# Altium integrated library NXP Semiconductors Automotive MOSFETs.IntLib: 540 symbols (part 1 of 16)
Pins are listed as number, name and electrical type; pins without a type are passive.

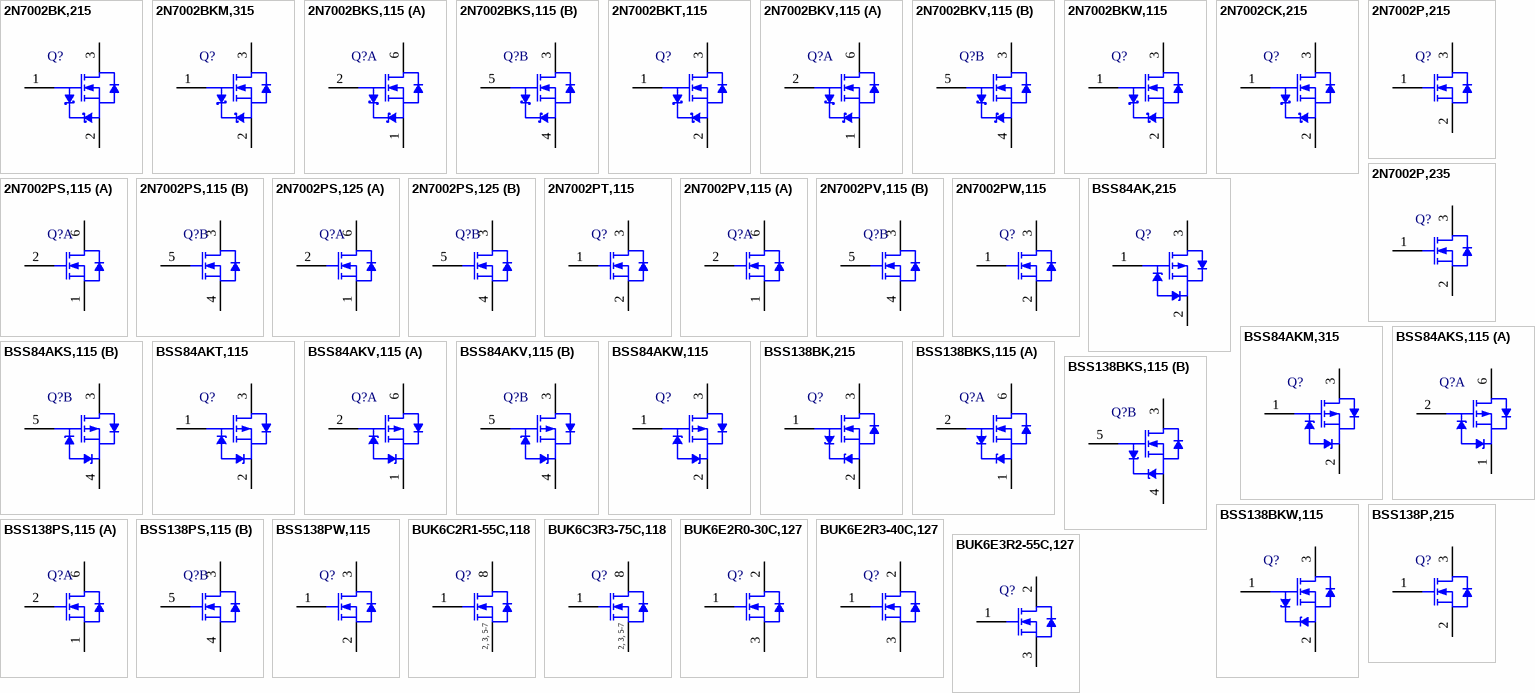
[diagram p0: symbols 2N7002BK,215 to BUK6E3R2-55C,127]

## 2N7002BK,215
designator Q?
N-Channel Trench MOSFET, 60 V, 0.35 A, -55 to 150 degC, 3-Pin SOT23, Tape and Reel; Manufacturer: NXP Semiconductors; PartNumber: 2N7002BK,215; Automotive Qualified: Y; Channel Type: N; ID [max] (A): 0.35; IDM [max] (A): 1.2; Packing: Tape & Reel; VDS [max] (V): 60; VGSth [typ] (V): 1.6; DatasheetVersion: Rev. 1; PackageVersion: 06-03-16, 03/2006; PackageReference: SOT23; PackageDescription: 3-Pin Small Outline Transistor Package, Body 2.9 x 1.3 mm, Pitch 0.95 mm; Supplier 1: Digi-Key; Supplier Part Number 1: 568-5981-2-ND; Supplier 2: Digi-Key; Supplier Part Number 2: 568-5981-1-ND; Supplier 3: Digi-Key; Supplier Part Number 3: 568-5981-6-ND; Supplier 4: Newark; Supplier Part Number 4: 81R3562; Supplier 5: Mouser; Supplier Part Number 5: 771-2N7002BK215; Mounting Technology: Surface Mount; Code_JEDEC: TO-236AB; ComponentLink1Description: Manufacturer URL; ComponentLink1URL: http://www.nxp.com/; ComponentLink2Description: Datasheet; ComponentLink2URL: http://www.nxp.com/documents/data_sheet/2N7002BK.pdf; ComponentLink3Description: Package Specification; ComponentLink3URL: http://www.nxp.com/documents/outline_drawing/sot023_po.pdf
footprint NXP-SOT23_N (SOT23, 3-Leads, Body 3x1.4mm, Pitch 0.95mm, IPC Medium Density)
footprint NXP-SOT23_L (SOT23, 3-Leads, Body 3x1.4mm, Pitch 0.95mm, IPC High Density)
footprint NXP-SOT23_M (SOT23, 3-Leads, Body 3x1.4mm, Pitch 0.95mm, IPC Low Density)
pins: 1 G "gate", 2 S "source", 3 D "drain"

## 2N7002BKM,315
designator Q?
N-Channel Trench MOSFET, 60 V, 0.45 A, -55 to 150 degC, 3-Pin SOT883, Tape and Reel; Manufacturer: NXP Semiconductors; PartNumber: 2N7002BKM,315; Automotive Qualified: Y; Channel Type: N; ID [max] (A): 0.45; IDM [max] (A): 1.2; Packing: Tape & Reel; VDS [max] (V): 60; VGSth [typ] (V): 1.6; DatasheetVersion: Rev. 1; PackageVersion: 03-04-03, 04/2003; PackageReference: SOT883; PackageDescription: 3-Pin Small Outline No-Lead, Body 0.585 x 0.985 mm, Pitch 0.35 mm; Supplier 1: Digi-Key; Supplier Part Number 1: 568-5976-2-ND; Supplier 2: Digi-Key; Supplier Part Number 2: 568-5976-1-ND; Supplier 3: Digi-Key; Supplier Part Number 3: 568-5976-6-ND; Supplier 4: Newark; Supplier Part Number 4: 81R3563; Supplier 5: Mouser; Supplier Part Number 5: 771-2N7002BKM315; Mounting Technology: Surface Mount; Code_JEITA: SC-101; ComponentLink1Description: Manufacturer URL; ComponentLink1URL: http://www.nxp.com/; ComponentLink2Description: Datasheet; ComponentLink2URL: http://www.nxp.com/documents/data_sheet/2N7002BKM.pdf; ComponentLink3Description: Package Specification; ComponentLink3URL: http://www.nxp.com/documents/outline_drawing/sot883_po.pdf
footprint NXP-SOT883_N (SON, 3-Leads, Body 1.02x0.62mm, Pitch 0.35mm, IPC Medium Density)
footprint NXP-SOT883_L (SON, 3-Leads, Body 1.02x0.62mm, Pitch 0.35mm, IPC High Density)
footprint NXP-SOT883_M (SON, 3-Leads, Body 1.02x0.62mm, Pitch 0.35mm, IPC Low Density)
pins: 1 G "gate", 2 S "source", 3 D "drain"

## 2N7002BKS,115
designator Q?
Dual N-Channel Trench MOSFET, 60 V, 0.3 A, -55 to 150 degC, 6-Pin SOT363, Tape and Reel; Manufacturer: NXP Semiconductors; PartNumber: 2N7002BKS,115; Automotive Qualified: Y; Channel Type: N; ID [max] (A): 0.3; IDM [max] (A): 1.2; Packing: Tape & Reel; VDS [max] (V): 60; VGSth [typ] (V): 1.6; DatasheetVersion: Rev. 2; PackageVersion: 06-03-16, 03/2006; PackageReference: SOT363; PackageDescription: 6-Pin Small Outline Transistor Package, Body 2 x 1.25 mm, Pitch 0.65 mm; Supplier 1: Digi-Key; Supplier Part Number 1: 568-5977-2-ND; Supplier 2: Digi-Key; Supplier Part Number 2: 568-5977-1-ND; Supplier 3: Digi-Key; Supplier Part Number 3: 568-5977-6-ND; Supplier 4: Newark; Supplier Part Number 4: 81R3564; Supplier 5: Mouser; Supplier Part Number 5: 771-2N7002BKS115; Mounting Technology: Surface Mount; Code_JEITA: SC-88; ComponentLink1Description: Manufacturer URL; ComponentLink1URL: http://www.nxp.com/; ComponentLink2Description: Datasheet; ComponentLink2URL: http://www.nxp.com/documents/data_sheet/2N7002BKS.pdf; ComponentLink3Description: Package Specification; ComponentLink3URL: http://www.nxp.com/documents/outline_drawing/sot363_po.pdf
footprint NXP-SOT363_N (SOT23, 6-Leads, Body 2.2x1.35mm, Pitch 0.65mm, IPC Medium Density)
footprint NXP-SOT363_L (SOT23, 6-Leads, Body 2.2x1.35mm, Pitch 0.65mm, IPC High Density)
footprint NXP-SOT363_M (SOT23, 6-Leads, Body 2.2x1.35mm, Pitch 0.65mm, IPC Low Density)
part A pins: 1 S1 "source 1", 2 G1 "gate 1", 6 D1 "drain 1"
part B pins: 3 D2 "drain 2", 4 S2 "source 2", 5 G2 "gate 2"

## 2N7002BKT,115
designator Q?
N-Channel Trench MOSFET, 60 V, 0.29 A, -55 to 150 degC, 3-Pin SOT416, Tape and Reel; Manufacturer: NXP Semiconductors; PartNumber: 2N7002BKT,115; Automotive Qualified: Y; Channel Type: N; ID [max] (A): 0.29; IDM [max] (A): 1.2; Packing: Tape & Reel; VDS [max] (V): 60; VGSth [typ] (V): 1.6; DatasheetVersion: Rev. 1; PackageVersion: 06-03-16, 03/2006; PackageReference: SOT416_B; PackageDescription: 3-Pin Small Outline Transistor Package, Body 1.6 x 0.8 mm, Pitch 0.5 mm; Supplier 1: Digi-Key; Supplier Part Number 1: 568-5978-2-ND; Supplier 2: Digi-Key; Supplier Part Number 2: 568-5978-1-ND; Supplier 3: Digi-Key; Supplier Part Number 3: 568-5978-6-ND; Supplier 4: Mouser; Supplier Part Number 4: 771-2N7002BKT115; Mounting Technology: Surface Mount; Code_JEITA: SC-75; ComponentLink1Description: Manufacturer URL; ComponentLink1URL: http://www.nxp.com/; ComponentLink2Description: Datasheet; ComponentLink2URL: http://www.nxp.com/documents/data_sheet/2N7002BKT.pdf; ComponentLink3Description: Package Specification; ComponentLink3URL: http://www.nxp.com/documents/data_sheet/2N7002PT.pdf
footprint NXP-SOT416_B_N (SOT23, 3-Leads, Body 1.6x0.8mm, Pitch 0.5mm, IPC Medium Density)
footprint NXP-SOT416_B_L (SOT23, 3-Leads, Body 1.6x0.8mm, Pitch 0.5mm, IPC High Density)
footprint NXP-SOT416_B_M (SOT23, 3-Leads, Body 1.6x0.8mm, Pitch 0.5mm, IPC Low Density)
pins: 1 G "gate", 2 S "source", 3 D "drain"

## 2N7002BKV,115
designator Q?
Dual N-Channel Trench MOSFET, 60 V, 0.34 A, -55 to 150 degC, 6-Pin SOT666, Tape and Reel; Manufacturer: NXP Semiconductors; PartNumber: 2N7002BKV,115; Automotive Qualified: Y; Channel Type: N; ID [max] (A): 0.34; IDM [max] (A): 1.2; Packing: Tape & Reel; VDS [max] (V): 60; VGSth [typ] (V): 1.6; DatasheetVersion: Rev. 2; PackageVersion: 06-03-16, 03/2006; PackageReference: SOT666; PackageDescription: 6-Pin Small Outline Transistor Package, Body 1.6 x 1.2 mm, Pitch 0.5 mm; Supplier 1: Digi-Key; Supplier Part Number 1: 568-5979-2-ND; Supplier 2: Digi-Key; Supplier Part Number 2: 568-5979-1-ND; Supplier 3: Digi-Key; Supplier Part Number 3: 568-5979-6-ND; Supplier 4: Mouser; Supplier Part Number 4: 771-2N7002BKV115; Mounting Technology: Surface Mount; ComponentLink1Description: Manufacturer URL; ComponentLink1URL: http://www.nxp.com/; ComponentLink2Description: Datasheet; ComponentLink2URL: http://www.nxp.com/documents/data_sheet/2N7002BKV.pdf; ComponentLink3Description: Package Specification; ComponentLink3URL: http://www.nxp.com/documents/outline_drawing/sot666_po.pdf
footprint NXP-SOT666_N (SOT23, 6-Leads, Body 1.7x1.3mm, Pitch 0.5mm, IPC Medium Density)
footprint NXP-SOT666_L (SOT23, 6-Leads, Body 1.7x1.3mm, Pitch 0.5mm, IPC High Density)
footprint NXP-SOT666_M (SOT23, 6-Leads, Body 1.7x1.3mm, Pitch 0.5mm, IPC Low Density)
part A pins: 1 S1 "source 1", 2 G1 "gate 1", 6 D1 "drain 1"
part B pins: 3 D2 "drain 2", 4 S2 "source 2", 5 G2 "gate 2"

## 2N7002BKW,115
designator Q?
N-Channel Trench MOSFET, 60 V, 0.31 A, -55 to 150 degC, 3-Pin SOT323, Tape and Reel; Manufacturer: NXP Semiconductors; PartNumber: 2N7002BKW,115; Automotive Qualified: Y; Channel Type: N; ID [max] (A): 0.31; IDM [max] (A): 1.2; Packing: Tape & Reel; VDS [max] (V): 60; VGSth [typ] (V): 1.6; DatasheetVersion: Rev. 1; PackageVersion: 06-03-16, 03/2006; PackageReference: SOT323; PackageDescription: 3-Pin Small Outline Transistor Package, Body 2 x 1.25 mm, Pitch 0.65 mm; Supplier 1: Digi-Key; Supplier Part Number 1: 568-5980-2-ND; Supplier 2: Digi-Key; Supplier Part Number 2: 568-5980-1-ND; Supplier 3: Digi-Key; Supplier Part Number 3: 568-5980-6-ND; Supplier 4: Newark; Supplier Part Number 4: 85W3341; Supplier 5: Newark; Supplier Part Number 5: 81R3567; Supplier 6: Mouser; Supplier Part Number 6: 771-2N7002BKW115; Mounting Technology: Surface Mount; Code_JEITA: SC-70; ComponentLink1Description: Manufacturer URL; ComponentLink1URL: http://www.nxp.com/; ComponentLink2Description: Datasheet; ComponentLink2URL: http://www.nxp.com/documents/data_sheet/2N7002BKW.pdf; ComponentLink3Description: Package Specification; ComponentLink3URL: http://www.nxp.com/documents/outline_drawing/sot323_po.pdf
footprint NXP-SOT323_N (SOT23, 3-Leads, Body 2.2x1.35mm, Pitch 0.65mm, IPC Medium Density)
footprint NXP-SOT323_L (SOT23, 3-Leads, Body 2.2x1.35mm, Pitch 0.65mm, IPC High Density)
footprint NXP-SOT323_M (SOT23, 3-Leads, Body 2.2x1.35mm, Pitch 0.65mm, IPC Low Density)
pins: 1 G "gate", 2 S "source", 3 D "drain"

## 2N7002CK,215
designator Q?
N-Channel Trench MOSFET, 60 V, 0.3 A, -55 to 150 degC, 3-Pin SOT23, Tape and Reel; Manufacturer: NXP Semiconductors; PartNumber: 2N7002CK,215; Automotive Qualified: Y; Channel Type: N; ID [max] (A): 0.3; IDM [max] (A): 1.2; Packing: Tape & Reel; VDS [max] (V): 60; VGSth [typ] (V): 1.75; DatasheetVersion: Rev. 01; PackageVersion: 06-03-16, 03/2006; PackageReference: SOT23; PackageDescription: 3-Pin Small Outline Transistor Package, Body 2.9 x 1.3 mm, Pitch 0.95 mm; Supplier 1: Digi-Key; Supplier Part Number 1: 568-5982-2-ND; Supplier 2: Digi-Key; Supplier Part Number 2: 568-5982-1-ND; Supplier 3: Digi-Key; Supplier Part Number 3: 568-5982-6-ND; Supplier 4: Newark; Supplier Part Number 4: 70R9743; Supplier 5: Newark; Supplier Part Number 5: 85W3342; Supplier 6: Mouser; Supplier Part Number 6: 771-2N7002CK215; Mounting Technology: Surface Mount; Code_JEDEC: TO-236AB; ComponentLink1Description: Manufacturer URL; ComponentLink1URL: http://www.nxp.com/; ComponentLink2Description: Datasheet; ComponentLink2URL: http://www.nxp.com/documents/data_sheet/2N7002CK.pdf; ComponentLink3Description: Package Specification; ComponentLink3URL: http://www.nxp.com/documents/outline_drawing/sot023_po.pdf
footprint NXP-SOT23_N (SOT23, 3-Leads, Body 3x1.4mm, Pitch 0.95mm, IPC Medium Density)
footprint NXP-SOT23_L (SOT23, 3-Leads, Body 3x1.4mm, Pitch 0.95mm, IPC High Density)
footprint NXP-SOT23_M (SOT23, 3-Leads, Body 3x1.4mm, Pitch 0.95mm, IPC Low Density)
pins: 1 G "gate", 2 S "source", 3 D "drain"

## 2N7002P,215
designator Q?
N-Channel Trench MOSFET, 60 V, 0.36 A, -55 to 150 degC, 3-Pin SOT23, Tape and Reel; Manufacturer: NXP Semiconductors; PartNumber: 2N7002P,215; Automotive Qualified: Y; Channel Type: N; ID [max] (A): 0.36; IDM [max] (A): 1.2; Packing: Tape & Reel; VDS [max] (V): 60; VGSth [typ] (V): 1.75; DatasheetVersion: Rev. 02; PackageVersion: 06-03-16, 03/2006; PackageReference: SOT23; PackageDescription: 3-Pin Small Outline Transistor Package, Body 2.9 x 1.3 mm, Pitch 0.95 mm; Supplier 1: Digi-Key; Supplier Part Number 1: 568-5818-2-ND; Supplier 2: Digi-Key; Supplier Part Number 2: 568-5818-1-ND; Supplier 3: Digi-Key; Supplier Part Number 3: 568-5818-6-ND; Supplier 4: Farnell; Supplier Part Number 4: 1859848; Supplier 5: Farnell; Supplier Part Number 5: 2336822; Supplier 6: Farnell; Supplier Part Number 6: 1859848RL; Supplier 7: Newark; Supplier Part Number 7: 85W3343; Supplier 8: Newark; Supplier Part Number 8: 97W3383; Supplier 9: Newark; Supplier Part Number 9: 72R6765; Supplier 10: Mouser; Supplier Part Number 10: 771-2N7002P-215; Mounting Technology: Surface Mount; Code_JEDEC: TO-236AB; ComponentLink1Description: Manufacturer URL; ComponentLink1URL: http://www.nxp.com/; ComponentLink2Description: Datasheet; ComponentLink2URL: http://www.nxp.com/documents/data_sheet/2N7002P.pdf; ComponentLink3Description: Package Specification; ComponentLink3URL: http://www.nxp.com/documents/outline_drawing/sot023_po.pdf
footprint NXP-SOT23_N (SOT23, 3-Leads, Body 3x1.4mm, Pitch 0.95mm, IPC Medium Density)
footprint NXP-SOT23_L (SOT23, 3-Leads, Body 3x1.4mm, Pitch 0.95mm, IPC High Density)
footprint NXP-SOT23_M (SOT23, 3-Leads, Body 3x1.4mm, Pitch 0.95mm, IPC Low Density)
pins: 1 G "gate", 2 S "source", 3 D "drain"

## 2N7002P,235
designator Q?
N-Channel Trench MOSFET, 60 V, 0.36 A, -55 to 150 degC, 3-Pin SOT23, Tape and Reel; Manufacturer: NXP Semiconductors; PartNumber: 2N7002P,235; Automotive Qualified: Y; Channel Type: N; ID [max] (A): 0.36; IDM [max] (A): 1.2; Packing: Tape & Reel; VDS [max] (V): 60; VGSth [typ] (V): 1.75; DatasheetVersion: Rev. 02; PackageVersion: 06-03-16, 03/2006; PackageReference: SOT23; PackageDescription: 3-Pin Small Outline Transistor Package, Body 2.9 x 1.3 mm, Pitch 0.95 mm; Supplier 1: Digi-Key; Supplier Part Number 1: 2N7002P,235-ND; Supplier 2: Mouser; Supplier Part Number 2: 771-2N7002P235; Mounting Technology: Surface Mount; Code_JEDEC: TO-236AB; ComponentLink1Description: Manufacturer URL; ComponentLink1URL: http://www.nxp.com/; ComponentLink2Description: Datasheet; ComponentLink2URL: http://www.nxp.com/documents/data_sheet/2N7002P.pdf; ComponentLink3Description: Package Specification; ComponentLink3URL: http://www.nxp.com/documents/outline_drawing/sot023_po.pdf
footprint NXP-SOT23_N (SOT23, 3-Leads, Body 3x1.4mm, Pitch 0.95mm, IPC Medium Density)
footprint NXP-SOT23_L (SOT23, 3-Leads, Body 3x1.4mm, Pitch 0.95mm, IPC High Density)
footprint NXP-SOT23_M (SOT23, 3-Leads, Body 3x1.4mm, Pitch 0.95mm, IPC Low Density)
pins: 1 G "gate", 2 S "source", 3 D "drain"

## 2N7002PS,115
designator Q?
N-Channel Trench MOSFET, 60 V, 0.32 A, -55 to 150 degC, 6-Pin SOT363, Tape and Reel; Manufacturer: NXP Semiconductors; PartNumber: 2N7002PS,115; Automotive Qualified: Y; Channel Type: N; ID [max] (A): 0.32; IDM [max] (A): 1.2; Packing: Tape & Reel; VDS [max] (V): 60; VGSth [typ] (V): 1.75; DatasheetVersion: Rev. 1; PackageVersion: 06-03-16, 03/2006; PackageReference: SOT363; PackageDescription: 6-Pin Small Outline Transistor Package, Body 2 x 1.25 mm, Pitch 0.65 mm; Supplier 1: Digi-Key; Supplier Part Number 1: 568-5984-2-ND; Supplier 2: Digi-Key; Supplier Part Number 2: 568-5984-1-ND; Supplier 3: Digi-Key; Supplier Part Number 3: 568-5984-6-ND; Supplier 4: Newark; Supplier Part Number 4: 85W3344; Supplier 5: Newark; Supplier Part Number 5: 72R6767; Supplier 6: Mouser; Supplier Part Number 6: 771-2N7002PS-115; Mounting Technology: Surface Mount; Code_JEITA: SC-88; ComponentLink1Description: Manufacturer URL; ComponentLink1URL: http://www.nxp.com/; ComponentLink2Description: Datasheet; ComponentLink2URL: http://www.nxp.com/documents/data_sheet/2N7002PS.pdf; ComponentLink3Description: Package Specification; ComponentLink3URL: http://www.nxp.com/documents/outline_drawing/sot363_po.pdf
footprint NXP-SOT363_N (SOT23, 6-Leads, Body 2.2x1.35mm, Pitch 0.65mm, IPC Medium Density)
footprint NXP-SOT363_L (SOT23, 6-Leads, Body 2.2x1.35mm, Pitch 0.65mm, IPC High Density)
footprint NXP-SOT363_M (SOT23, 6-Leads, Body 2.2x1.35mm, Pitch 0.65mm, IPC Low Density)
part A pins: 1 S1 "source 1", 2 G1 "gate 1", 6 D1 "drain 1"
part B pins: 3 D2 "drain 2", 4 S2 "source 2", 5 G2 "gate 2"

## 2N7002PS,125
designator Q?
N-Channel Trench MOSFET, 60 V, 0.32 A, -55 to 150 degC, 6-Pin SOT363, Tape and Reel; Manufacturer: NXP Semiconductors; PartNumber: 2N7002PS,125; Automotive Qualified: Y; Channel Type: N; ID [max] (A): 0.32; IDM [max] (A): 1.2; Packing: Tape & Reel; VDS [max] (V): 60; VGSth [typ] (V): 1.75; DatasheetVersion: Rev. 1; PackageVersion: 06-03-16, 03/2006; PackageReference: SOT363; PackageDescription: 6-Pin Small Outline Transistor Package, Body 2 x 1.25 mm, Pitch 0.65 mm; Supplier 1: Digi-Key; Supplier Part Number 1: 568-10456-2-ND; Supplier 2: Digi-Key; Supplier Part Number 2: 568-10456-1-ND; Supplier 3: Digi-Key; Supplier Part Number 3: 568-10456-6-ND; Supplier 4: Newark; Supplier Part Number 4: 54T9626; Supplier 5: Mouser; Supplier Part Number 5: 771-2N7002PS125; Mounting Technology: Surface Mount; Code_JEITA: SC-88; ComponentLink1Description: Manufacturer URL; ComponentLink1URL: http://www.nxp.com/; ComponentLink2Description: Datasheet; ComponentLink2URL: http://www.nxp.com/documents/data_sheet/2N7002PS.pdf; ComponentLink3Description: Package Specification; ComponentLink3URL: http://www.nxp.com/documents/outline_drawing/sot363_po.pdf
footprint NXP-SOT363_N (SOT23, 6-Leads, Body 2.2x1.35mm, Pitch 0.65mm, IPC Medium Density)
footprint NXP-SOT363_L (SOT23, 6-Leads, Body 2.2x1.35mm, Pitch 0.65mm, IPC High Density)
footprint NXP-SOT363_M (SOT23, 6-Leads, Body 2.2x1.35mm, Pitch 0.65mm, IPC Low Density)
part A pins: 1 S1 "source 1", 2 G1 "gate 1", 6 D1 "drain 1"
part B pins: 3 D2 "drain 2", 4 S2 "source 2", 5 G2 "gate 2"

## 2N7002PT,115
designator Q?
N-Channel Trench MOSFET, 60 V, 0.31 A, -55 to 150 degC, 3-Pin SOT416, Tape and Reel; Manufacturer: NXP Semiconductors; PartNumber: 2N7002PT,115; Automotive Qualified: Y; Channel Type: N; ID [max] (A): 0.31; IDM [max] (A): 1.2; Packing: Tape & Reel; VDS [max] (V): 60; VGSth [typ] (V): 1.75; DatasheetVersion: Rev. 1; PackageVersion: 06-03-16, 03/2006; PackageReference: SOT416_B; PackageDescription: 3-Pin Small Outline Transistor Package, Body 1.6 x 0.8 mm, Pitch 0.5 mm; Supplier 1: Digi-Key; Supplier Part Number 1: 568-5985-2-ND; Supplier 2: Digi-Key; Supplier Part Number 2: 568-5985-1-ND; Supplier 3: Digi-Key; Supplier Part Number 3: 568-5985-6-ND; Supplier 4: Mouser; Supplier Part Number 4: 771-2N7002PT-115; Mounting Technology: Surface Mount; Code_JEITA: SC-75; ComponentLink1Description: Manufacturer URL; ComponentLink1URL: http://www.nxp.com/; ComponentLink2Description: Datasheet; ComponentLink2URL: http://www.nxp.com/documents/data_sheet/2N7002PT.pdf; ComponentLink3Description: Package Specification; ComponentLink3URL: http://www.nxp.com/documents/data_sheet/2N7002PT.pdf
footprint NXP-SOT416_B_N (SOT23, 3-Leads, Body 1.6x0.8mm, Pitch 0.5mm, IPC Medium Density)
footprint NXP-SOT416_B_L (SOT23, 3-Leads, Body 1.6x0.8mm, Pitch 0.5mm, IPC High Density)
footprint NXP-SOT416_B_M (SOT23, 3-Leads, Body 1.6x0.8mm, Pitch 0.5mm, IPC Low Density)
pins: 1 G "gate", 2 S "source", 3 D "drain"

## 2N7002PV,115
designator Q?
N-Channel Trench MOSFET, 60 V, 0.35 A, -55 to 150 degC, 6-Pin SOT666, Tape and Reel; Manufacturer: NXP Semiconductors; PartNumber: 2N7002PV,115; Automotive Qualified: Y; Channel Type: N; ID [max] (A): 0.35; IDM [max] (A): 1.2; Packing: Tape & Reel; VDS [max] (V): 60; VGSth [typ] (V): 1.75; DatasheetVersion: Rev. 1; PackageVersion: 06-03-16, 03/2006; PackageReference: SOT666; PackageDescription: 6-Pin Small Outline Transistor Package, Body 1.6 x 1.2 mm, Pitch 0.5 mm; Supplier 1: Digi-Key; Supplier Part Number 1: 568-5986-2-ND; Supplier 2: Digi-Key; Supplier Part Number 2: 568-5986-1-ND; Supplier 3: Digi-Key; Supplier Part Number 3: 568-5986-6-ND; Supplier 4: Newark; Supplier Part Number 4: 72R6769; Supplier 5: Mouser; Supplier Part Number 5: 771-2N7002PV-115; Mounting Technology: Surface Mount; ComponentLink1Description: Manufacturer URL; ComponentLink1URL: http://www.nxp.com/; ComponentLink2Description: Datasheet; ComponentLink2URL: http://www.nxp.com/documents/data_sheet/2N7002PV.pdf; ComponentLink3Description: Package Specification; ComponentLink3URL: http://www.nxp.com/documents/outline_drawing/sot666_po.pdf
footprint NXP-SOT666_N (SOT23, 6-Leads, Body 1.7x1.3mm, Pitch 0.5mm, IPC Medium Density)
footprint NXP-SOT666_L (SOT23, 6-Leads, Body 1.7x1.3mm, Pitch 0.5mm, IPC High Density)
footprint NXP-SOT666_M (SOT23, 6-Leads, Body 1.7x1.3mm, Pitch 0.5mm, IPC Low Density)
part A pins: 1 S1 "source 1", 2 G1 "gate 1", 6 D1 "drain 1"
part B pins: 3 D2 "drain 2", 4 S2 "source 2", 5 G2 "gate 2"

## 2N7002PW,115
designator Q?
N-Channel Trench MOSFET, 60 V, 0.31 A, -55 to 150 degC, 3-Pin SOT323, Tape and Reel; Manufacturer: NXP Semiconductors; PartNumber: 2N7002PW,115; Automotive Qualified: Y; Channel Type: N; ID [max] (A): 0.31; IDM [max] (A): 1.2; Packing: Tape & Reel; VDS [max] (V): 60; VGSth [typ] (V): 1.75; DatasheetVersion: Rev. 02; PackageVersion: 06-03-16, 03/2006; PackageReference: SOT323; PackageDescription: 3-Pin Small Outline Transistor Package, Body 2 x 1.25 mm, Pitch 0.65 mm; Supplier 1: Digi-Key; Supplier Part Number 1: 568-5987-2-ND; Supplier 2: Digi-Key; Supplier Part Number 2: 568-5987-1-ND; Supplier 3: Digi-Key; Supplier Part Number 3: 568-5987-6-ND; Supplier 4: Newark; Supplier Part Number 4: 72R6770; Supplier 5: Mouser; Supplier Part Number 5: 771-2N7002PW-115; Mounting Technology: Surface Mount; Code_JEITA: SC-70; ComponentLink1Description: Manufacturer URL; ComponentLink1URL: http://www.nxp.com/; ComponentLink2Description: Datasheet; ComponentLink2URL: http://www.nxp.com/documents/data_sheet/2N7002PW.pdf; ComponentLink3Description: Package Specification; ComponentLink3URL: http://www.nxp.com/documents/outline_drawing/sot323_po.pdf
footprint NXP-SOT323_N (SOT23, 3-Leads, Body 2.2x1.35mm, Pitch 0.65mm, IPC Medium Density)
footprint NXP-SOT323_L (SOT23, 3-Leads, Body 2.2x1.35mm, Pitch 0.65mm, IPC High Density)
footprint NXP-SOT323_M (SOT23, 3-Leads, Body 2.2x1.35mm, Pitch 0.65mm, IPC Low Density)
pins: 1 G "gate", 2 S "source", 3 D "drain"

## BSS84AK,215
designator Q?
P-Channel Trench MOSFET, -50 V, -0.18 A, -55 to 150 degC, 3-Pin SOT23, Tape and Reel; Manufacturer: NXP Semiconductors; PartNumber: BSS84AK,215; Automotive Qualified: Y; Channel Type: P; IDM [max] (A): -0.7; Packing: Tape & Reel; VGSth [typ] (V): -1.6; DatasheetVersion: Rev. 1; PackageVersion: 06-03-16, 03/2006; PackageReference: SOT23; PackageDescription: 3-Pin Small Outline Transistor Package, Body 2.9 x 1.3 mm, Pitch 0.95 mm; Supplier 1: Digi-Key; Supplier Part Number 1: 568-10310-2-ND; Supplier 2: Digi-Key; Supplier Part Number 2: 568-10310-1-ND; Supplier 3: Digi-Key; Supplier Part Number 3: 568-10310-6-ND; Supplier 4: Mouser; Supplier Part Number 4: 771-BSS84AK215; ID [max] (A): -0.18; VDS [max] (V): -50; Mounting Technology: Surface Mount; Code_JEDEC: TO-236AB; ComponentLink1Description: Manufacturer URL; ComponentLink1URL: http://www.nxp.com/; ComponentLink2Description: Datasheet; ComponentLink2URL: http://www.nxp.com/documents/data_sheet/BSS84AK.pdf; ComponentLink3Description: Package Specification; ComponentLink3URL: http://www.nxp.com/documents/outline_drawing/sot023_po.pdf
footprint NXP-SOT23_N (SOT23, 3-Leads, Body 3x1.4mm, Pitch 0.95mm, IPC Medium Density)
footprint NXP-SOT23_L (SOT23, 3-Leads, Body 3x1.4mm, Pitch 0.95mm, IPC High Density)
footprint NXP-SOT23_M (SOT23, 3-Leads, Body 3x1.4mm, Pitch 0.95mm, IPC Low Density)
pins: 1 G "gate", 2 S "source", 3 D "drain"

## BSS84AKM,315
designator Q?
P-Channel Trench MOSFET, -50 V, -0.23 A, -55 to 150 degC, 3-Pin SOT883, Tape and Reel; Manufacturer: NXP Semiconductors; PartNumber: BSS84AKM,315; Automotive Qualified: Y; Channel Type: P; IDM [max] (A): -0.9; Packing: Tape & Reel; VGSth [typ] (V): -1.6; DatasheetVersion: Rev. 1; PackageVersion: 03-04-03, 04/2003; PackageReference: SOT883; PackageDescription: 3-Pin Small Outline No-Lead, Body 0.585 x 0.985 mm, Pitch 0.35 mm; Supplier 1: Digi-Key; Supplier Part Number 1: 568-10471-2-ND; Supplier 2: Digi-Key; Supplier Part Number 2: 568-10471-1-ND; Supplier 3: Digi-Key; Supplier Part Number 3: 568-10471-6-ND; Supplier 4: Mouser; Supplier Part Number 4: 771-BSS84AKM315; ID [max] (A): -0.23; VDS [max] (V): -50; Mounting Technology: Surface Mount; Code_JEITA: SC-101; ComponentLink1Description: Manufacturer URL; ComponentLink1URL: http://www.nxp.com/; ComponentLink2Description: Datasheet; ComponentLink2URL: http://www.nxp.com/documents/data_sheet/BSS84AKM.pdf; ComponentLink3Description: Package Specification; ComponentLink3URL: http://www.nxp.com/documents/outline_drawing/sot883_po.pdf
footprint NXP-SOT883_N (SON, 3-Leads, Body 1.02x0.62mm, Pitch 0.35mm, IPC Medium Density)
footprint NXP-SOT883_L (SON, 3-Leads, Body 1.02x0.62mm, Pitch 0.35mm, IPC High Density)
footprint NXP-SOT883_M (SON, 3-Leads, Body 1.02x0.62mm, Pitch 0.35mm, IPC Low Density)
pins: 1 G "gate", 2 S "source", 3 D "drain"

## BSS84AKS,115
designator Q?
Dual P-Channel Trench MOSFET, -50 V, -0.16 A, -55 to 150 degC, 6-Pin SOT363, Tape and Reel; Manufacturer: NXP Semiconductors; PartNumber: BSS84AKS,115; Automotive Qualified: Y; Channel Type: P; IDM [max] (A): -0.64; Packing: Tape & Reel; VGSth [typ] (V): -1.6; DatasheetVersion: Rev. 1; PackageVersion: 06-03-16, 03/2006; PackageReference: SOT363; PackageDescription: 6-Pin Small Outline Transistor Package, Body 2 x 1.25 mm, Pitch 0.65 mm; Supplier 1: Digi-Key; Supplier Part Number 1: 568-8394-2-ND; Supplier 2: Digi-Key; Supplier Part Number 2: 568-8394-1-ND; Supplier 3: Digi-Key; Supplier Part Number 3: 568-8394-6-ND; Supplier 4: Newark; Supplier Part Number 4: 54T9075; Supplier 5: Mouser; Supplier Part Number 5: 771-BSS84AKS115; ID [max] (A): -0.16; VDS [max] (V): -50; Mounting Technology: Surface Mount; Code_JEITA: SC-88; ComponentLink1Description: Manufacturer URL; ComponentLink1URL: http://www.nxp.com/; ComponentLink2Description: Datasheet; ComponentLink2URL: http://www.nxp.com/documents/data_sheet/BSS84AKS.pdf; ComponentLink3Description: Package Specification; ComponentLink3URL: http://www.nxp.com/documents/outline_drawing/sot363_po.pdf
footprint NXP-SOT363_N (SOT23, 6-Leads, Body 2.2x1.35mm, Pitch 0.65mm, IPC Medium Density)
footprint NXP-SOT363_L (SOT23, 6-Leads, Body 2.2x1.35mm, Pitch 0.65mm, IPC High Density)
footprint NXP-SOT363_M (SOT23, 6-Leads, Body 2.2x1.35mm, Pitch 0.65mm, IPC Low Density)
part A pins: 1 S1 "source 1", 2 G1 "gate 1", 6 D1 "drain 1"
part B pins: 3 D2 "drain 2", 4 S2 "source 2", 5 G2 "gate 2"

## BSS84AKT,115
designator Q?
P-Channel Trench MOSFET, -50 V, -0.15 A, -55 to 150 degC, 3-Pin SOT416, Tape and Reel; Manufacturer: NXP Semiconductors; PartNumber: BSS84AKT,115; Automotive Qualified: Y; Channel Type: P; IDM [max] (A): -0.6; Packing: Tape & Reel; VGSth [typ] (V): -1.6; DatasheetVersion: Rev. 1; PackageVersion: 06-03-16, 03/2006; PackageReference: SOT416_B; PackageDescription: 3-Pin Small Outline Transistor Package, Body 1.6 x 0.8 mm, Pitch 0.5 mm; Supplier 1: Digi-Key; Supplier Part Number 1: 568-10473-2-ND; Supplier 2: Digi-Key; Supplier Part Number 2: 568-10473-1-ND; Supplier 3: Digi-Key; Supplier Part Number 3: 568-10473-6-ND; Supplier 4: Mouser; Supplier Part Number 4: 771-BSS84AKT115; ID [max] (A): -0.15; VDS [max] (V): -50; Mounting Technology: Surface Mount; Code_JEITA: SC-75; ComponentLink1Description: Manufacturer URL; ComponentLink1URL: http://www.nxp.com/; ComponentLink2Description: Datasheet; ComponentLink2URL: http://www.nxp.com/documents/data_sheet/BSS84AKT.pdf; ComponentLink3Description: Package Specification; ComponentLink3URL: http://www.nxp.com/documents/data_sheet/2N7002PT.pdf
footprint NXP-SOT416_B_N (SOT23, 3-Leads, Body 1.6x0.8mm, Pitch 0.5mm, IPC Medium Density)
footprint NXP-SOT416_B_L (SOT23, 3-Leads, Body 1.6x0.8mm, Pitch 0.5mm, IPC High Density)
footprint NXP-SOT416_B_M (SOT23, 3-Leads, Body 1.6x0.8mm, Pitch 0.5mm, IPC Low Density)
pins: 1 G "gate", 2 S "source", 3 D "drain"

## BSS84AKV,115
designator Q?
Dual P-Channel Trench MOSFET, -50 V, -0.17 A, -55 to 150 degC, 6-Pin SOT666, Tape and Reel; Manufacturer: NXP Semiconductors; PartNumber: BSS84AKV,115; Automotive Qualified: Y; Channel Type: P; IDM [max] (A): -0.7; Packing: Tape & Reel; VGSth [typ] (V): -1.6; DatasheetVersion: Rev. 1; PackageVersion: 06-03-16, 03/2006; PackageReference: SOT666; PackageDescription: 6-Pin Small Outline Transistor Package, Body 1.6 x 1.2 mm, Pitch 0.5 mm; Supplier 1: Digi-Key; Supplier Part Number 1: 568-10474-2-ND; Supplier 2: Digi-Key; Supplier Part Number 2: 568-10474-1-ND; Supplier 3: Digi-Key; Supplier Part Number 3: 568-10474-6-ND; Supplier 4: Newark; Supplier Part Number 4: 54T9077; Supplier 5: Mouser; Supplier Part Number 5: 771-BSS84AKV115; ID [max] (A): -0.17; VDS [max] (V): -50; Mounting Technology: Surface Mount; ComponentLink1Description: Manufacturer URL; ComponentLink1URL: http://www.nxp.com/; ComponentLink2Description: Datasheet; ComponentLink2URL: http://www.nxp.com/documents/data_sheet/BSS84AKV.pdf; ComponentLink3Description: Package Specification; ComponentLink3URL: http://www.nxp.com/documents/outline_drawing/sot666_po.pdf
footprint NXP-SOT666_N (SOT23, 6-Leads, Body 1.7x1.3mm, Pitch 0.5mm, IPC Medium Density)
footprint NXP-SOT666_L (SOT23, 6-Leads, Body 1.7x1.3mm, Pitch 0.5mm, IPC High Density)
footprint NXP-SOT666_M (SOT23, 6-Leads, Body 1.7x1.3mm, Pitch 0.5mm, IPC Low Density)
part A pins: 1 S1 "source 1", 2 G1 "gate 1", 6 D1 "drain 1"
part B pins: 3 D2 "drain 2", 4 S2 "source 2", 5 G2 "gate 2"

## BSS84AKW,115
designator Q?
P-Channel Trench MOSFET, -50 V, -0.15 A, -55 to 150 degC, 3-Pin SOT323, Tape and Reel; Manufacturer: NXP Semiconductors; PartNumber: BSS84AKW,115; Automotive Qualified: Y; Channel Type: P; IDM [max] (A): -0.6; Packing: Tape & Reel; VGSth [typ] (V): -1.6; DatasheetVersion: Rev. 1; PackageVersion: 06-03-16, 03/2006; PackageReference: SOT323; PackageDescription: 3-Pin Small Outline Transistor Package, Body 2 x 1.25 mm, Pitch 0.65 mm; Supplier 1: Digi-Key; Supplier Part Number 1: 568-8395-2-ND; Supplier 2: Digi-Key; Supplier Part Number 2: 568-8395-1-ND; Supplier 3: Digi-Key; Supplier Part Number 3: 568-8395-6-ND; Supplier 4: Newark; Supplier Part Number 4: 56T4758; Supplier 5: Newark; Supplier Part Number 5: 54T9078; Supplier 6: Mouser; Supplier Part Number 6: 771-BSS84AKW115; ID [max] (A): -0.15; VDS [max] (V): -50; Mounting Technology: Surface Mount; Code_JEITA: SC-70; ComponentLink1Description: Manufacturer URL; ComponentLink1URL: http://www.nxp.com/; ComponentLink2Description: Datasheet; ComponentLink2URL: http://www.nxp.com/documents/data_sheet/BSS84AKW.pdf; ComponentLink3Description: Package Specification; ComponentLink3URL: http://www.nxp.com/documents/outline_drawing/sot323_po.pdf
footprint NXP-SOT323_N (SOT23, 3-Leads, Body 2.2x1.35mm, Pitch 0.65mm, IPC Medium Density)
footprint NXP-SOT323_L (SOT23, 3-Leads, Body 2.2x1.35mm, Pitch 0.65mm, IPC High Density)
footprint NXP-SOT323_M (SOT23, 3-Leads, Body 2.2x1.35mm, Pitch 0.65mm, IPC Low Density)
pins: 1 G "gate", 2 S "source", 3 D "drain"

## BSS138BK,215
designator Q?
N-Channel Trench MOSFET, 60 V, 0.36 A, -55 to 150 degC, 3-Pin SOT23, Tape and Reel; Manufacturer: NXP Semiconductors; PartNumber: BSS138BK,215; Automotive Qualified: Y; Channel Type: N; ID [max] (A): 0.36; IDM [max] (A): 1.2; Packing: Tape & Reel; VDS [max] (V): 60; VGSth [typ] (V): 1.1; DatasheetVersion: Rev. 1; PackageVersion: 06-03-16, 03/2006; PackageReference: SOT23; PackageDescription: 3-Pin Small Outline Transistor Package, Body 2.9 x 1.3 mm, Pitch 0.95 mm; Supplier 1: Digi-Key; Supplier Part Number 1: 568-10307-2-ND; Supplier 2: Digi-Key; Supplier Part Number 2: 568-10307-1-ND; Supplier 3: Digi-Key; Supplier Part Number 3: 568-10307-6-ND; Supplier 4: Newark; Supplier Part Number 4: 54T9067; Supplier 5: Mouser; Supplier Part Number 5: 771-BSS138BK215; Mounting Technology: Surface Mount; Code_JEDEC: TO-236AB; ComponentLink1Description: Manufacturer URL; ComponentLink1URL: http://www.nxp.com/; ComponentLink2Description: Datasheet; ComponentLink2URL: http://www.nxp.com/documents/data_sheet/BSS138BK.pdf; ComponentLink3Description: Package Specification; ComponentLink3URL: http://www.nxp.com/documents/outline_drawing/sot023_po.pdf
footprint NXP-SOT23_N (SOT23, 3-Leads, Body 3x1.4mm, Pitch 0.95mm, IPC Medium Density)
footprint NXP-SOT23_L (SOT23, 3-Leads, Body 3x1.4mm, Pitch 0.95mm, IPC High Density)
footprint NXP-SOT23_M (SOT23, 3-Leads, Body 3x1.4mm, Pitch 0.95mm, IPC Low Density)
pins: 1 G "gate", 2 S "source", 3 D "drain"

## BSS138BKS,115
designator Q?
Dual N-Channel Trench MOSFET, 60 V, 0.32 A, -55 to 150 degC, 6-Pin SOT363, Tape and Reel; Manufacturer: NXP Semiconductors; PartNumber: BSS138BKS,115; Automotive Qualified: Y; Channel Type: N; ID [max] (A): 0.32; IDM [max] (A): 1.2; Packing: Tape & Reel; VDS [max] (V): 60; VGSth [typ] (V): 1.1; DatasheetVersion: Rev. 1; PackageVersion: 06-03-16, 03/2006; PackageReference: SOT363; PackageDescription: 6-Pin Small Outline Transistor Package, Body 2 x 1.25 mm, Pitch 0.65 mm; Supplier 1: Digi-Key; Supplier Part Number 1: 568-8392-2-ND; Supplier 2: Digi-Key; Supplier Part Number 2: 568-8392-1-ND; Supplier 3: Digi-Key; Supplier Part Number 3: 568-8392-6-ND; Supplier 4: Newark; Supplier Part Number 4: 54T9068; Supplier 5: Mouser; Supplier Part Number 5: 771-BSS138BKS115; Mounting Technology: Surface Mount; Code_JEITA: SC-88; ComponentLink1Description: Manufacturer URL; ComponentLink1URL: http://www.nxp.com/; ComponentLink2Description: Datasheet; ComponentLink2URL: http://www.nxp.com/documents/data_sheet/BSS138BKS.pdf; ComponentLink3Description: Package Specification; ComponentLink3URL: http://www.nxp.com/documents/outline_drawing/sot363_po.pdf
footprint NXP-SOT363_N (SOT23, 6-Leads, Body 2.2x1.35mm, Pitch 0.65mm, IPC Medium Density)
footprint NXP-SOT363_L (SOT23, 6-Leads, Body 2.2x1.35mm, Pitch 0.65mm, IPC High Density)
footprint NXP-SOT363_M (SOT23, 6-Leads, Body 2.2x1.35mm, Pitch 0.65mm, IPC Low Density)
part A pins: 1 S1 "source TR1", 2 G1 "gate TR1", 6 D1 "drain TR1"
part B pins: 3 D2 "drain TR2", 4 S2 "source TR2", 5 G2 "gate TR2"

## BSS138BKW,115
designator Q?
N-Channel Trench MOSFET, 60 V, 0.32 A, -55 to 150 degC, 3-Pin SOT323, Tape and Reel; Manufacturer: NXP Semiconductors; PartNumber: BSS138BKW,115; Automotive Qualified: Y; Channel Type: N; ID [max] (A): 0.32; IDM [max] (A): 1.2; Packing: Tape & Reel; VDS [max] (V): 60; VGSth [typ] (V): 1.1; DatasheetVersion: Rev. 1; PackageVersion: 06-03-16, 03/2006; PackageReference: SOT323; PackageDescription: 3-Pin Small Outline Transistor Package, Body 2 x 1.25 mm, Pitch 0.65 mm; Supplier 1: Digi-Key; Supplier Part Number 1: 568-10470-2-ND; Supplier 2: Digi-Key; Supplier Part Number 2: 568-10470-1-ND; Supplier 3: Digi-Key; Supplier Part Number 3: 568-10470-6-ND; Supplier 4: Mouser; Supplier Part Number 4: 771-BSS138BKW115; Mounting Technology: Surface Mount; Code_JEITA: SC-70; ComponentLink1Description: Manufacturer URL; ComponentLink1URL: http://www.nxp.com/; ComponentLink2Description: Datasheet; ComponentLink2URL: http://www.nxp.com/documents/data_sheet/BSS138BKW.pdf; ComponentLink3Description: Package Specification; ComponentLink3URL: http://www.nxp.com/documents/outline_drawing/sot323_po.pdf
footprint NXP-SOT323_N (SOT23, 3-Leads, Body 2.2x1.35mm, Pitch 0.65mm, IPC Medium Density)
footprint NXP-SOT323_L (SOT23, 3-Leads, Body 2.2x1.35mm, Pitch 0.65mm, IPC High Density)
footprint NXP-SOT323_M (SOT23, 3-Leads, Body 2.2x1.35mm, Pitch 0.65mm, IPC Low Density)
pins: 1 G "gate", 2 S "source", 3 D "drain"

## BSS138P,215
designator Q?
N-Channel Trench MOSFET, 60 V, 0.36 A, -55 to 150 degC, 3-Pin SOT23, Tape and Reel; Manufacturer: NXP Semiconductors; PartNumber: BSS138P,215; Automotive Qualified: Y; Channel Type: N; ID [max] (A): 0.36; IDM [max] (A): 1.2; Packing: Tape & Reel; VDS [max] (V): 60; DatasheetVersion: Rev. 1; PackageVersion: 06-03-16, 03/2006; PackageReference: SOT23; PackageDescription: 3-Pin Small Outline Transistor Package, Body 2.9 x 1.3 mm, Pitch 0.95 mm; Supplier 1: Digi-Key; Supplier Part Number 1: 568-10308-2-ND; Supplier 2: Digi-Key; Supplier Part Number 2: 568-10308-1-ND; Supplier 3: Digi-Key; Supplier Part Number 3: 568-10308-6-ND; Supplier 4: Newark; Supplier Part Number 4: 54T9070; Supplier 5: Mouser; Supplier Part Number 5: 771-BSS138P215; VGSth [typ] (V): 1.2; Mounting Technology: Surface Mount; Code_JEDEC: TO-236AB; ComponentLink1Description: Manufacturer URL; ComponentLink1URL: http://www.nxp.com/; ComponentLink2Description: Datasheet; ComponentLink2URL: http://www.nxp.com/documents/data_sheet/BSS138P.pdf; ComponentLink3Description: Package Specification; ComponentLink3URL: http://www.nxp.com/documents/outline_drawing/sot023_po.pdf
footprint NXP-SOT23_N (SOT23, 3-Leads, Body 3x1.4mm, Pitch 0.95mm, IPC Medium Density)
footprint NXP-SOT23_L (SOT23, 3-Leads, Body 3x1.4mm, Pitch 0.95mm, IPC High Density)
footprint NXP-SOT23_M (SOT23, 3-Leads, Body 3x1.4mm, Pitch 0.95mm, IPC Low Density)
pins: 1 G "gate", 2 S "source", 3 D "drain"

## BSS138PS,115
designator Q?
Dual N-Channel Trench MOSFET, 60 V, 0.32 A, -55 to 150 degC, 6-Pin SOT363, Tape and Reel; Manufacturer: NXP Semiconductors; PartNumber: BSS138PS,115; Automotive Qualified: Y; Channel Type: N; ID [max] (A): 0.32; IDM [max] (A): 1.2; Packing: Tape & Reel; VDS [max] (V): 60; DatasheetVersion: Rev. 1; PackageVersion: 06-03-16, 03/2006; PackageReference: SOT363; PackageDescription: 6-Pin Small Outline Transistor Package, Body 2 x 1.25 mm, Pitch 0.65 mm; Supplier 1: Digi-Key; Supplier Part Number 1: 568-8393-2-ND; Supplier 2: Digi-Key; Supplier Part Number 2: 568-8393-1-ND; Supplier 3: Digi-Key; Supplier Part Number 3: 568-8393-6-ND; Supplier 4: Newark; Supplier Part Number 4: 56T4750; Supplier 5: Newark; Supplier Part Number 5: 54T9071; Supplier 6: Mouser; Supplier Part Number 6: 771-BSS138PS115; VGSth [typ] (V): 1.2; Mounting Technology: Surface Mount; Code_JEITA: SC-88; ComponentLink1Description: Manufacturer URL; ComponentLink1URL: http://www.nxp.com/; ComponentLink2Description: Datasheet; ComponentLink2URL: http://www.nxp.com/documents/data_sheet/BSS138PS.pdf; ComponentLink3Description: Package Specification; ComponentLink3URL: http://www.nxp.com/documents/outline_drawing/sot363_po.pdf
footprint NXP-SOT363_N (SOT23, 6-Leads, Body 2.2x1.35mm, Pitch 0.65mm, IPC Medium Density)
footprint NXP-SOT363_L (SOT23, 6-Leads, Body 2.2x1.35mm, Pitch 0.65mm, IPC High Density)
footprint NXP-SOT363_M (SOT23, 6-Leads, Body 2.2x1.35mm, Pitch 0.65mm, IPC Low Density)
part A pins: 1 S1 "source 1", 2 G1 "gate 1", 6 D1 "drain 1"
part B pins: 3 D2 "drain 2", 4 S2 "source 2", 5 G2 "gate 2"

## BSS138PW,115
designator Q?
N-Channel Trench MOSFET, 60 V, 0.32 A, -55 to 150 degC, 3-Pin SOT323, Tape and Reel; Manufacturer: NXP Semiconductors; PartNumber: BSS138PW,115; Automotive Qualified: Y; Channel Type: N; ID [max] (A): 0.32; IDM [max] (A): 1.2; Packing: Tape & Reel; VDS [max] (V): 60; DatasheetVersion: Rev. 1; PackageVersion: 06-03-16, 03/2006; PackageReference: SOT323; PackageDescription: 3-Pin Small Outline Transistor Package, Body 2 x 1.25 mm, Pitch 0.65 mm; Supplier 1: Digi-Key; Supplier Part Number 1: 568-10309-2-ND; Supplier 2: Digi-Key; Supplier Part Number 2: 568-10309-1-ND; Supplier 3: Digi-Key; Supplier Part Number 3: 568-10309-6-ND; Supplier 4: Newark; Supplier Part Number 4: 54T9072; Supplier 5: Mouser; Supplier Part Number 5: 771-BSS138PW115; VGSth [typ] (V): 1.2; Mounting Technology: Surface Mount; Code_JEITA: SC-70; ComponentLink1Description: Manufacturer URL; ComponentLink1URL: http://www.nxp.com/; ComponentLink2Description: Datasheet; ComponentLink2URL: http://www.nxp.com/documents/data_sheet/BSS138PW.pdf; ComponentLink3Description: Package Specification; ComponentLink3URL: http://www.nxp.com/documents/outline_drawing/sot323_po.pdf
footprint NXP-SOT323_N (SOT23, 3-Leads, Body 2.2x1.35mm, Pitch 0.65mm, IPC Medium Density)
footprint NXP-SOT323_L (SOT23, 3-Leads, Body 2.2x1.35mm, Pitch 0.65mm, IPC High Density)
footprint NXP-SOT323_M (SOT23, 3-Leads, Body 2.2x1.35mm, Pitch 0.65mm, IPC Low Density)
pins: 1 G "gate", 2 S "source", 3 D "drain"

## BUK6C2R1-55C,118
designator Q?
N-Channel TrenchMOS Intermediate Level FET, 55 V, 228 A, 7-Pin SOT427, Tape and Reel; Manufacturer: NXP Semiconductors; PartNumber: BUK6C2R1-55C,118; Automotive Qualified: Y; Channel Type: N; ID [max] (A): 228; IDM [max] (A): 914; Packing: Tape & Reel; Qr [typ] (nC): 115; VDS [max] (V): 55; VGSth [typ] (V): 2.3; DatasheetVersion: Rev. 3; PackageVersion: 12-10-16, 10/2012; PackageReference: SOT427; PackageDescription: 7-Pin Plastic Single-ended Surface Mounted Package, Body 10 x 9.6 mm, Pitch 1.27 mm; Supplier 1: Digi-Key; Supplier Part Number 1: 568-9502-2-ND; Supplier 2: Digi-Key; Supplier Part Number 2: 568-9502-1-ND; Supplier 3: Digi-Key; Supplier Part Number 3: 568-9502-6-ND; Supplier 4: Mouser; Supplier Part Number 4: 771-BUK6C2R1-55C,118; Mounting Technology: Surface Mount; ComponentLink1Description: Manufacturer URL; ComponentLink1URL: http://www.nxp.com/; ComponentLink2Description: Datasheet; ComponentLink2URL: http://www.nxp.com/documents/data_sheet/BUK6C2R1-55C.pdf; ComponentLink3Description: Package Specification; ComponentLink3URL: http://www.nxp.com/documents/outline_drawing/sot427_po.pdf
footprint NXP-SOT427_N (D2-PAK, 7-Leads, Body 9.80x10.30mm, IPC Medium Density)
footprint NXP-SOT427_L (D2-PAK, 7-Leads, Body 9.80x10.30mm, IPC High Density)
footprint NXP-SOT427_M (D2-PAK, 7-Leads, Body 9.80x10.30mm, IPC Low Density)
pins: 1 G "gate", 2 S "source", 3 S "source", 5 S "source", 6 S "source", 7 S "source", 8 D "mounting base;  connected to drain"
text: 2, 3, 5-7

## BUK6C3R3-75C,118
designator Q?
N-Channel TrenchMOS Intermediate Level FET, 75 V, 181 A, 7-Pin SOT427, Tape and Reel; Manufacturer: NXP Semiconductors; PartNumber: BUK6C3R3-75C,118; Automotive Qualified: Y; Channel Type: N; ID [max] (A): 181; IDM [max] (A): 723; Packing: Tape & Reel; Qr [typ] (nC): 165; VDS [max] (V): 75; VGSth [typ] (V): 2.3; DatasheetVersion: Rev. 3; PackageVersion: 12-10-16, 10/2012; PackageReference: SOT427; PackageDescription: 7-Pin Plastic Single-ended Surface Mounted Package, Body 10 x 9.6 mm, Pitch 1.27 mm; Supplier 1: Digi-Key; Supplier Part Number 1: 568-9503-2-ND; Supplier 2: Digi-Key; Supplier Part Number 2: 568-9503-1-ND; Supplier 3: Digi-Key; Supplier Part Number 3: 568-9503-6-ND; Supplier 4: Mouser; Supplier Part Number 4: 771-BUK6C3R3-75C,118; Mounting Technology: Surface Mount; ComponentLink1Description: Manufacturer URL; ComponentLink1URL: http://www.nxp.com/; ComponentLink2Description: Datasheet; ComponentLink2URL: http://www.nxp.com/documents/data_sheet/BUK6C3R3-75C.pdf; ComponentLink3Description: Package Specification; ComponentLink3URL: http://www.nxp.com/documents/outline_drawing/sot427_po.pdf
footprint NXP-SOT427_N (D2-PAK, 7-Leads, Body 9.80x10.30mm, IPC Medium Density)
footprint NXP-SOT427_L (D2-PAK, 7-Leads, Body 9.80x10.30mm, IPC High Density)
footprint NXP-SOT427_M (D2-PAK, 7-Leads, Body 9.80x10.30mm, IPC Low Density)
pins: 1 G "gate", 2 S "source", 3 S "source", 5 S "source", 6 S "source", 7 S "source", 8 D "mounting base;  connected to drain"
text: 2, 3, 5-7

## BUK6E2R0-30C,127
designator Q?
N-Channel TrenchMOS Intermediate Level FET, 30 V, 120 A, 3-Pin SOT226, Rail; Manufacturer: NXP Semiconductors; PartNumber: BUK6E2R0-30C,127; Automotive Qualified: Y; Channel Type: N; ID [max] (A): 120; IDM [max] (A): 1082; Qr [typ] (nC): 138; VDS [max] (V): 30; VGSth [typ] (V): 2.3; DatasheetVersion: Rev. 02; PackageVersion: 09-08-25, 08/2009; PackageReference: SOT226; PackageDescription: 3-Pin Flange Mount, Vertical Straight Lead, Body 10 x 4.3 mm, Pitch 2.54 mm; Supplier 1: Digi-Key; Supplier Part Number 1: 568-7503-5-ND; Supplier 2: Mouser; Supplier Part Number 2: 771-BUK6E2R030C127; Packing: Rail; Mounting Technology: Through Hole; Code_JEDEC: TO-262; ComponentLink1Description: Manufacturer URL; ComponentLink1URL: http://www.nxp.com/; ComponentLink2Description: Datasheet; ComponentLink2URL: http://www.nxp.com/documents/data_sheet/BUK6E2R0-30C.pdf; ComponentLink3Description: Package Specification; ComponentLink3URL: http://www.nxp.com/documents/outline_drawing/sot226_po.pdf
footprint NXP-SOT226 (FM, 3-Leads, Body 10.3x4.5mm, Pitch 2.54mm)
pins: 1 G "gate", 2 D "drain", 3 S "source"

## BUK6E2R3-40C,127
designator Q?
N-Channel TrenchMOS Intermediate Level FET, 40 V, 120 A, 3-Pin SOT226, Rail; Manufacturer: NXP Semiconductors; PartNumber: BUK6E2R3-40C,127; Automotive Qualified: Y; Channel Type: N; ID [max] (A): 120; IDM [max] (A): 1006; Qr [typ] (nC): 127; VDS [max] (V): 40; VGSth [typ] (V): 2.3; DatasheetVersion: Rev. 1; PackageVersion: 09-08-25, 08/2009; PackageReference: SOT226; PackageDescription: 3-Pin Flange Mount, Vertical Straight Lead, Body 10 x 4.3 mm, Pitch 2.54 mm; Supplier 1: Digi-Key; Supplier Part Number 1: 568-7504-5-ND; Supplier 2: Mouser; Supplier Part Number 2: 771-BUK6E2R340C127; Packing: Rail; Mounting Technology: Through Hole; Code_JEDEC: TO-262; ComponentLink1Description: Manufacturer URL; ComponentLink1URL: http://www.nxp.com/; ComponentLink2Description: Datasheet; ComponentLink2URL: http://www.nxp.com/documents/data_sheet/BUK6E2R3-40C.pdf; ComponentLink3Description: Package Specification; ComponentLink3URL: http://www.nxp.com/documents/outline_drawing/sot226_po.pdf
footprint NXP-SOT226 (FM, 3-Leads, Body 10.3x4.5mm, Pitch 2.54mm)
pins: 1 G "gate", 2 D "drain", 3 S "source"

## BUK6E3R2-55C,127
designator Q?
N-Channel TrenchMOS Intermediate Level FET, 55 V, 120 A, 3-Pin SOT226, Rail; Manufacturer: NXP Semiconductors; PartNumber: BUK6E3R2-55C,127; Automotive Qualified: Y; Channel Type: N; ID [max] (A): 120; IDM [max] (A): 861; Qr [typ] (nC): 176; VDS [max] (V): 55; VGSth [typ] (V): 2.3; DatasheetVersion: Rev. 01; PackageVersion: 09-08-25, 08/2009; PackageReference: SOT226; PackageDescription: 3-Pin Flange Mount, Vertical Straight Lead, Body 10 x 4.3 mm, Pitch 2.54 mm; Supplier 1: Digi-Key; Supplier Part Number 1: 568-7505-5-ND; Supplier 2: Mouser; Supplier Part Number 2: 771-BUK6E3R255C127; Packing: Rail; Mounting Technology: Through Hole; Code_JEDEC: TO-262; ComponentLink1Description: Manufacturer URL; ComponentLink1URL: http://www.nxp.com/; ComponentLink2Description: Datasheet; ComponentLink2URL: http://www.nxp.com/documents/data_sheet/BUK6E3R2-55C.pdf; ComponentLink3Description: Package Specification; ComponentLink3URL: http://www.nxp.com/documents/outline_drawing/sot226_po.pdf
footprint NXP-SOT226 (FM, 3-Leads, Body 10.3x4.5mm, Pitch 2.54mm)
pins: 1 G "gate", 2 D "drain", 3 S "source"

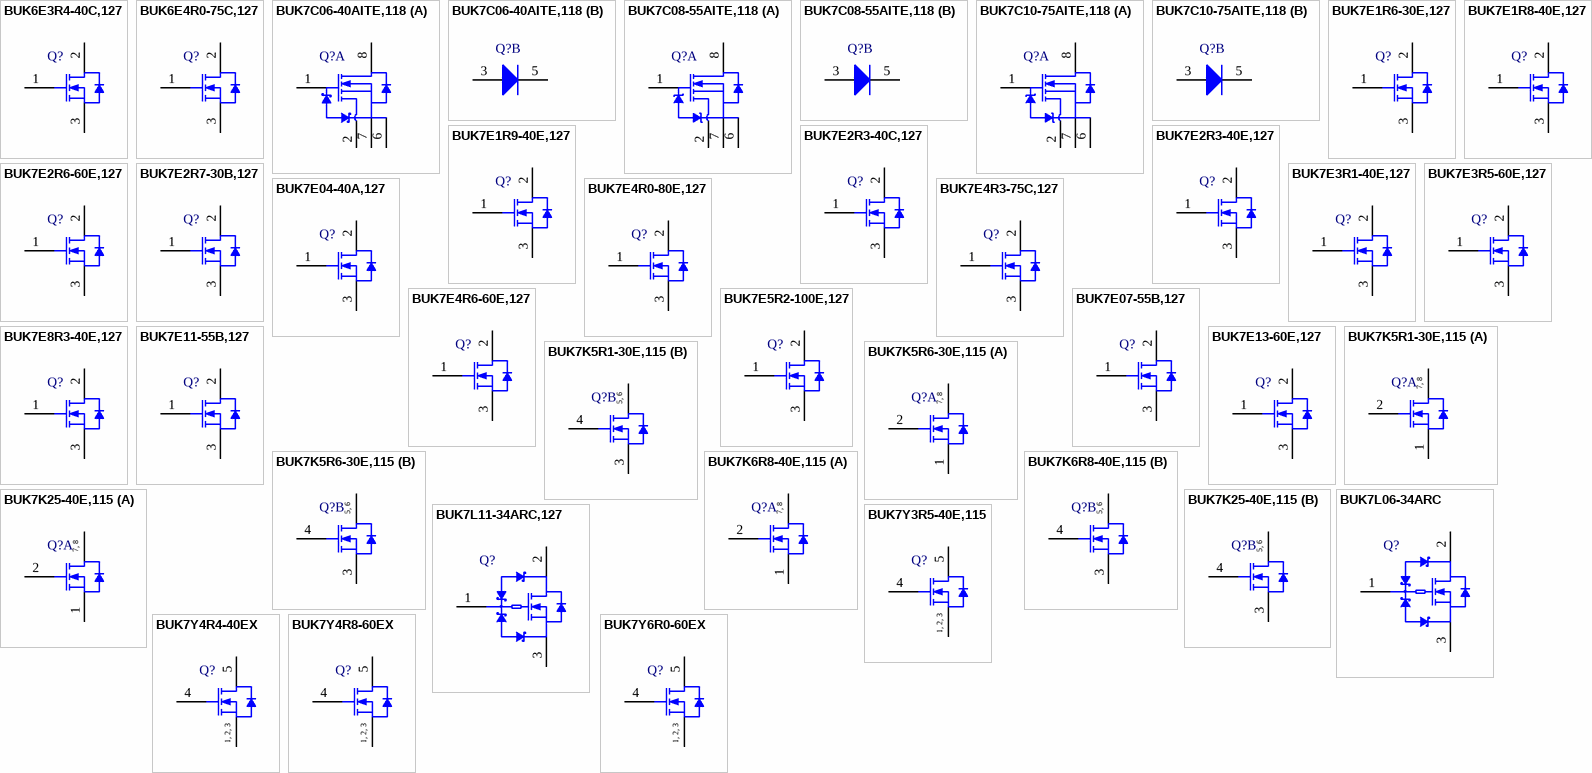
[diagram p1: symbols BUK6E3R4-40C,127 to BUK7Y6R0-60EX]

## BUK6E3R4-40C,127
designator Q?
N-Channel TrenchMOS Intermediate Level FET, 40 V, 100 A, 3-Pin SOT226, Rail; Manufacturer: NXP Semiconductors; PartNumber: BUK6E3R4-40C,127; Automotive Qualified: Y; Channel Type: N; ID [max] (A): 100; IDM [max] (A): 657; Qr [typ] (nC): 82; VDS [max] (V): 40; VGSth [typ] (V): 2.3; DatasheetVersion: Rev. 3; PackageVersion: 09-08-25, 08/2009; PackageReference: SOT226; PackageDescription: 3-Pin Flange Mount, Vertical Straight Lead, Body 10 x 4.3 mm, Pitch 2.54 mm; Supplier 1: Digi-Key; Supplier Part Number 1: 568-7506-5-ND; Supplier 2: Mouser; Supplier Part Number 2: 771-BUK6E3R440C127; Packing: Rail; Mounting Technology: Through Hole; Code_JEDEC: TO-262; ComponentLink1Description: Manufacturer URL; ComponentLink1URL: http://www.nxp.com/; ComponentLink2Description: Datasheet; ComponentLink2URL: http://www.nxp.com/documents/data_sheet/BUK6E3R4-40C.pdf; ComponentLink3Description: Package Specification; ComponentLink3URL: http://www.nxp.com/documents/outline_drawing/sot226_po.pdf
footprint NXP-SOT226 (FM, 3-Leads, Body 10.3x4.5mm, Pitch 2.54mm)
pins: 1 G "gate", 2 D "drain", 3 S "source"

## BUK6E4R0-75C,127
designator Q?
N-Channel TrenchMOS FET, 75 V, 120 A, 3-Pin SOT226, Rail; Manufacturer: NXP Semiconductors; PartNumber: BUK6E4R0-75C,127; Automotive Qualified: Y; Channel Type: N; ID [max] (A): 120; IDM [max] (A): 670; Qr [typ] (nC): 218; VDS [max] (V): 75; VGSth [typ] (V): 2.3; DatasheetVersion: Rev. 02; PackageVersion: 09-08-25, 08/2009; PackageReference: SOT226; PackageDescription: 3-Pin Flange Mount, Vertical Straight Lead, Body 10 x 4.3 mm, Pitch 2.54 mm; Supplier 1: Digi-Key; Supplier Part Number 1: 568-7507-5-ND; Supplier 2: Mouser; Supplier Part Number 2: 771-BUK6E4R075C127; Packing: Rail; Mounting Technology: Through Hole; Code_JEDEC: TO-262; ComponentLink1Description: Manufacturer URL; ComponentLink1URL: http://www.nxp.com/; ComponentLink2Description: Datasheet; ComponentLink2URL: http://www.nxp.com/documents/data_sheet/BUK6E4R0-75C.pdf; ComponentLink3Description: Package Specification; ComponentLink3URL: http://www.nxp.com/documents/outline_drawing/sot226_po.pdf
footprint NXP-SOT226 (FM, 3-Leads, Body 10.3x4.5mm, Pitch 2.54mm)
pins: 1 G "gate", 2 D "drain", 3 S "source"

## BUK7C06-40AITE,118
designator Q?
N-Channel TrenchPLUS Standard Level FET, 40 V, 7-Pin SOT427, Tape and Reel; Manufacturer: NXP Semiconductors; PartNumber: BUK7C06-40AITE,118; Automotive Qualified: Y; Channel Type: N; IDM [max] (A): 620; Packing: Tape & Reel; Qr [typ] (nC): 224; VDS [max] (V): 40; VGSth [typ] (V): 3; DatasheetVersion: Rev. 05; PackageVersion: 12-10-16, 10/2012; PackageReference: SOT427; PackageDescription: 7-Pin Plastic Single-ended Surface Mounted Package, Body 10 x 9.6 mm, Pitch 1.27 mm; Supplier 1: Digi-Key; Supplier Part Number 1: 568-9660-2-ND; Supplier 2: Digi-Key; Supplier Part Number 2: 568-9660-1-ND; Supplier 3: Digi-Key; Supplier Part Number 3: 568-9660-6-ND; Supplier 4: Mouser; Supplier Part Number 4: 771-K7C06-40AITE118; Mounting Technology: Surface Mount; ComponentLink1Description: Manufacturer URL; ComponentLink1URL: http://www.nxp.com/; ComponentLink2Description: Datasheet; ComponentLink2URL: http://www.nxp.com/documents/data_sheet/BUK7C06-40AITE.pdf; ComponentLink3Description: Package Specification; ComponentLink3URL: http://www.nxp.com/documents/outline_drawing/sot427_po.pdf
footprint NXP-SOT427_N (D2-PAK, 7-Leads, Body 9.80x10.30mm, IPC Medium Density)
footprint NXP-SOT427_L (D2-PAK, 7-Leads, Body 9.80x10.30mm, IPC High Density)
footprint NXP-SOT427_M (D2-PAK, 7-Leads, Body 9.80x10.30mm, IPC Low Density)
part A pins: 1 G "gate", 2 ISENSE "sense current", 6 KS "Kelvin source", 7 S "source", 8 D "mounting base;connected to drain"
part B pins: 3 A "anode", 5 K "cathode"